# Altium integrated library 16YXG220MEFCT16.3X11.IntLib: 1 symbol
Pins are listed as number, name and electrical type; pins without a type are passive.

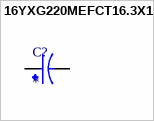
[diagram p0: symbol 16YXG220MEFCT16.3X11]

## 16YXG220MEFCT16.3X11
designator C?
CAP ALUM 220UF 20% 16V RADIAL / 220 ÂµF 16 V Aluminum Electrolytic Capacitors Radial, Can 3000 Hrs @ 105Â°C; MF: Rubycon; MP: 16YXG220MEFCT16.3X11; SnapEDA_Link: https://www.snapeda.com/parts/16YXG220MEFCT16.3X11/Rubycon/view-part/?ref=snap; Package: None; Value: *; Check_prices: https://www.snapeda.com/parts/16YXG220MEFCT16.3X11/Rubycon/view-part/?ref=eda
footprint CAPPRD250W50D630H1250
pins: N, P